# EAGLE library part LPC12XX (library mbed-ics)
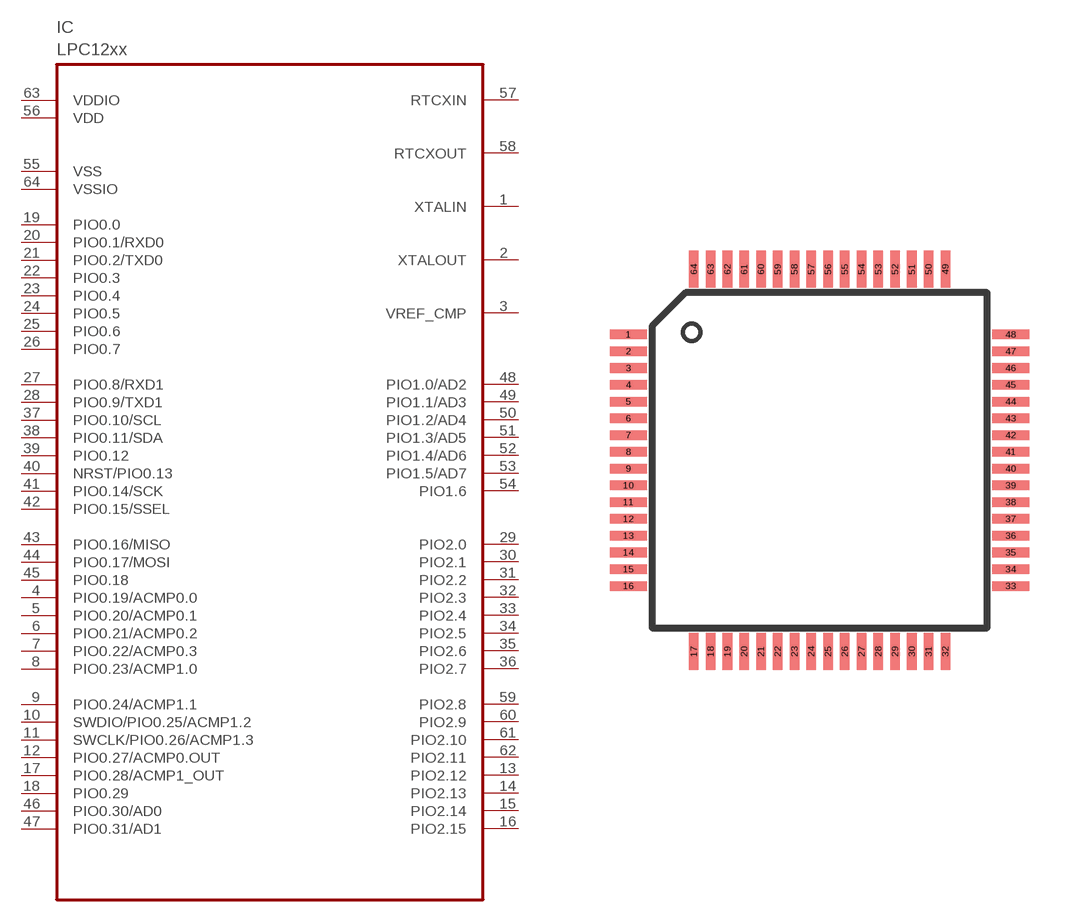
[diagram p13: symbol with the pads of LQFP64; footprint LQFP64]

Designator prefix IC

## LPC12XX  [LQFP64]
1  XTALIN
2  XTALOUT
3  VREF_CMP
4  PIO0.19/ACMP0.0
5  PIO0.20/ACMP0.1
6  PIO0.21/ACMP0.2
7  PIO0.22/ACMP0.3
8  PIO0.23/ACMP1.0
9  PIO0.24/ACMP1.1
10  SWDIO/PIO0.25/ACMP1.2
11  SWCLK/PIO0.26/ACMP1.3
12  PIO0.27/ACMP0.OUT
13  PIO2.12
14  PIO2.13
15  PIO2.14
16  PIO2.15
17  PIO0.28/ACMP1_OUT
18  PIO0.29
19  PIO0.0
20  PIO0.1/RXD0
21  PIO0.2/TXD0
22  PIO0.3
23  PIO0.4
24  PIO0.5
25  PIO0.6
26  PIO0.7
27  PIO0.8/RXD1
28  PIO0.9/TXD1
29  PIO2.0
30  PIO2.1
31  PIO2.2
32  PIO2.3
33  PIO2.4
34  PIO2.5
35  PIO2.6
36  PIO2.7
37  PIO0.10/SCL
38  PIO0.11/SDA
39  PIO0.12
40  NRST/PIO0.13
41  PIO0.14/SCK
42  PIO0.15/SSEL
43  PIO0.16/MISO
44  PIO0.17/MOSI
45  PIO0.18
46  PIO0.30/AD0
47  PIO0.31/AD1
48  PIO1.0/AD2
49  PIO1.1/AD3
50  PIO1.2/AD4
51  PIO1.3/AD5
52  PIO1.4/AD6
53  PIO1.5/AD7
54  PIO1.6
55  VSS
56  VDD
57  RTCXIN
58  RTCXOUT
59  PIO2.8
60  PIO2.9
61  PIO2.10
62  PIO2.11
63  VDDIO
64  VSSIO

## Footprint LQFP64 (pad centres in mm)
smd 1.1 x 0.285: 1 -5.7,3.75; 2 -5.7,3.25; 3 -5.7,2.75; 4 -5.7,2.25; 5 -5.7,1.75; 6 -5.7,1.25; 7 -5.7,0.75; 8 -5.7,0.25; 9 -5.7,-0.25; 10 -5.7,-0.75; 11 -5.7,-1.25; 12 -5.7,-1.75; 13 -5.7,-2.25; 14 -5.7,-2.75; 15 -5.7,-3.25; 16 -5.7,-3.75; 33 5.7,-3.75; 34 5.7,-3.25; 35 5.7,-2.75; 36 5.7,-2.25; 37 5.7,-1.75; 38 5.7,-1.25; 39 5.7,-0.75; 40 5.7,-0.25; 41 5.7,0.25; 42 5.7,0.75; 43 5.7,1.25; 44 5.7,1.75; 45 5.7,2.25; 46 5.7,2.75; 47 5.7,3.25; 48 5.7,3.75
smd 0.285 x 1.1: 17 -3.75,-5.7; 18 -3.25,-5.7; 19 -2.75,-5.7; 20 -2.25,-5.7; 21 -1.75,-5.7; 22 -1.25,-5.7; 23 -0.75,-5.7; 24 -0.25,-5.7; 25 0.25,-5.7; 26 0.75,-5.7; 27 1.25,-5.7; 28 1.75,-5.7; 29 2.25,-5.7; 30 2.75,-5.7; 31 3.25,-5.7; 32 3.75,-5.7; 49 3.75,5.7; 50 3.25,5.7; 51 2.75,5.7; 52 2.25,5.7; 53 1.75,5.7; 54 1.25,5.7; 55 0.75,5.7; 56 0.25,5.7; 57 -0.25,5.7; 58 -0.75,5.7; 59 -1.25,5.7; 60 -1.75,5.7; 61 -2.25,5.7; 62 -2.75,5.7; 63 -3.25,5.7; 64 -3.75,5.7